# Altium footprint library Mega2560PCB库.PcbLib: 27 footprints (part 1 of 2)
Each footprint in its own frame and in the unit in brackets; x right, y up, seen from the top. Pads: shape width x height; smd on the part's side, far side on the other; paste and mask are expansions set on the pad; w line width, h text height; cw(c..) or ccw(c..) is an arc to the next point about the centre after c.
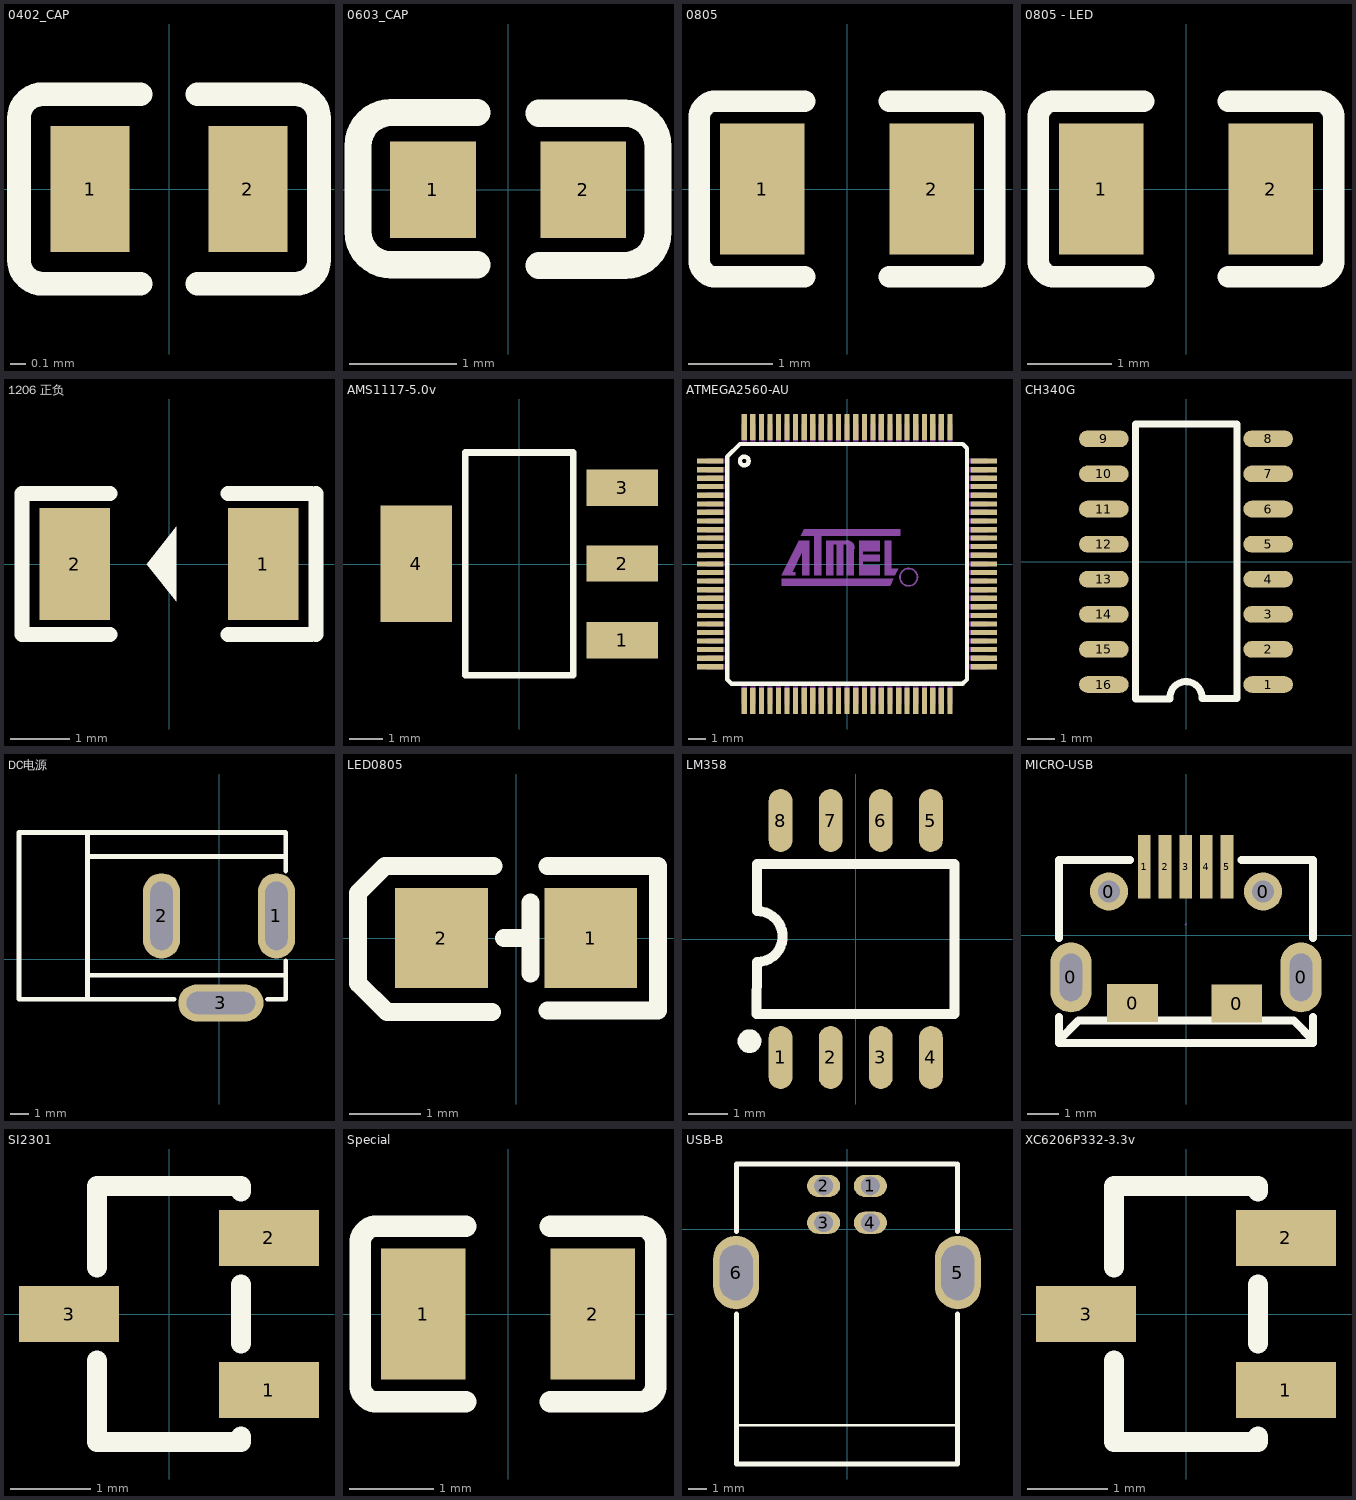
[diagram p0: the footprints below, top view; thin cyan lines are the x and y axes]

## 0402_CAP [mm]
pads (2):
  rect 0.5x0.8 smd: 1(-0.5,0) 2(0.5,0)
Top Overlay:
  lines w0.15: -0.18,-0.6 -0.8,-0.6 cw(c-0.8,-0.45) -0.95,-0.45 -0.95,-0.4 -0.95,0.4 -0.95,0.45 cw(c-0.8,0.45) -0.8,0.6 -0.18,0.6 ; 0.18,-0.6 0.8,-0.6 ccw(c0.8,-0.45) 0.95,-0.45 0.95,-0.4 0.95,0.4 0.95,0.45 ccw(c0.8,0.45) 0.8,0.6 0.18,0.6
3D body "RES0402(1).STEP": height 0.21, standoff 0.01, extent -0.5,-0.3 0.5,0.3

## 0603_CAP [mm]
pads (2):
  rect 0.8x0.9 smd: 1(-0.7,0) 2(0.7,0)
Top Overlay:
  lines w0.254: -0.289,-0.698 -1.089,-0.698 cw(c-1.089,-0.388) -1.399,-0.388 -1.398,0.412 cw(c-1.089,0.412) -1.089,0.722 -0.289,0.722 ; 0.287,-0.704 1.087,-0.704 ccw(c1.087,-0.394) 1.397,-0.394 1.397,0.406 ccw(c1.087,0.406) 1.087,0.716 0.287,0.716
3D body "RES0603.STEP": height 0.45, standoff 0, extent -0.8,-0.41 0.8,0.41

## 0805 [mm]
pads (2):
  rect 1x1.55 smd: 1(-1,0) 2(1,0)
Top Overlay:
  lines w0.254: -1.75,0.82 -1.75,0.8 ; -0.5,-1.04 -1.55,-1.04 cw(c-1.55,-0.84) -1.75,-0.84 -1.75,-0.8 -1.75,0.8 ; -0.5,1.04 -1.55,1.04 ccw(c-1.55,0.84) -1.75,0.84 -1.75,0.8 ; 0.5,-1.04 1.55,-1.04 ccw(c1.55,-0.84) 1.75,-0.84 1.75,-0.8 1.75,0.8 1.75,0.84 ccw(c1.55,0.84) 1.55,1.04 0.5,1.04
3D body "0805L.STEP": height 0.5, standoff 0, extent -1,-0.625 1,0.625

## 0805 - LED [mm]
pads (2):
  rect 1x1.55 smd: 1(-1,0) 2(1,0)
Top Overlay:
  lines w0.254: -1.75,0.82 -1.75,0.8 ; -0.5,-1.04 -1.55,-1.04 cw(c-1.55,-0.84) -1.75,-0.84 -1.75,-0.8 -1.75,0.8 ; -0.5,1.04 -1.55,1.04 ccw(c-1.55,0.84) -1.75,0.84 -1.75,0.8 ; 0.5,-1.04 1.55,-1.04 ccw(c1.55,-0.84) 1.75,-0.84 1.75,-0.8 1.75,0.8 1.75,0.84 ccw(c1.55,0.84) 1.55,1.04 0.5,1.04
3D body "0805L.STEP": height 0.5, standoff 0, extent -1,-0.625 1,0.625

## 1206 正负 [mm] "开关二极管"
pads (2):
  rect 1.2x1.9 smd: 1(1.6,0) 2(-1.6,0)
Top Overlay:
  region: 0.127,0 0.127,0.635 -0.381,0 0.127,-0.635
  lines w0.254: -1,-1.2 -2.5,-1.2 -2.5,1.2 -1,1.2 ; 1,-1.2 2.2,-1.2 2.413,-1.2 ; 1,1.2 2.2,1.2 2.413,1.2 ; 2.5,-1.2 2.5,1.2
3D body "1206L.STEP": height 0.55, standoff 0, extent -1.6,-0.8 1.6,0.8

## AMS1117-5.0v [mil]
pads (4):
  rect 85x43 smd: 1(122,-90.5) 2(122,0.5) 3(122,90.5)
  rect 85x138 smd: 4(-122,0.5)
Top Overlay:
  lines w7.9: -63.8,-131.7 -63.8,132.1 64.1,132.1 64.1,-131.7 -63.8,-131.7
3D body "SOT230P700X180-4N.step": height 70.87, standoff 0, extent -137.8,-131.89 137.8,131.89

## ATMEGA2560-AU [mil] "主控芯片"
height 47.24
pads (100):
  rect 60x12 smd: 1(-314.98,236.98) 2(-314.98,216.98) 3(-314.98,196.98) 4(-314.98,177.98) 5(-314.98,157.98) 6(-314.98,137.98) 7(-314.98,118.98) 8(-314.98,98.98) 9(-314.98,78.98) 10(-314.98,59.98) 11(-314.98,39.98) 12(-314.98,19.98) 13(-314.98,-0.02) 14(-314.98,-19.7) 15(-314.98,-39.39) 16(-314.98,-59.07) 17(-314.98,-78.76) 18(-314.98,-98.44) 19(-314.98,-118.13) 20(-314.98,-137.81) 21(-314.98,-157.5) 22(-314.98,-177.19) 23(-314.98,-196.87) 24(-314.98,-216.56) 25(-314.98,-236.24) 51(314.98,-236.24) 52(314.98,-216.56) 53(314.98,-196.87) 54(314.98,-177.19) 55(314.98,-157.5) 56(314.98,-137.81) 57(314.98,-118.13) 58(314.98,-98.44) 59(314.98,-78.76) 60(314.98,-59.07) 61(314.98,-39.39) 62(314.98,-19.7) 63(314.98,-0.02) 64(314.98,19.98) 65(314.98,39.98) 66(314.98,59.98) 67(314.98,78.98) 68(314.98,98.98) 69(314.98,118.98) 70(314.98,137.98) 71(314.98,157.98) 72(314.98,177.98) 73(314.98,196.98) 74(314.98,216.98) 75(314.98,236.98)
  rect 12x60 smd: 26(-236.24,-314.98) 27(-216.56,-314.98) 28(-196.87,-314.98) 29(-177.19,-314.98) 30(-157.5,-314.98) 31(-137.81,-314.98) 32(-118.13,-314.98) 33(-98.44,-314.98) 34(-78.76,-314.98) 35(-59.07,-314.98) 36(-39.39,-314.98) 37(-19.7,-314.98) 38(-0.02,-314.98) 39(19.98,-314.98) 40(39.98,-314.98) 41(59.98,-314.98) 42(78.98,-314.98) 43(98.98,-314.98) 44(118.98,-314.98) 45(137.98,-314.98) 46(157.98,-314.98) 47(177.98,-314.98) 48(196.98,-314.98) 49(216.98,-314.98) 50(236.98,-314.98) 76(236.98,314.98) 77(216.98,314.98) 78(196.98,314.98) 79(177.98,314.98) 80(157.98,314.98) 81(137.98,314.98) 82(118.98,314.98) 83(98.98,314.98) 84(78.98,314.98) 85(59.98,314.98) 86(39.98,314.98) 87(19.98,314.98) 88(-0.02,314.98) 89(-19.7,314.98) 90(-39.39,314.98) 91(-59.07,314.98) 92(-78.76,314.98) 93(-98.44,314.98) 94(-118.13,314.98) 95(-137.81,314.98) 96(-157.5,314.98) 97(-177.19,314.98) 98(-196.87,314.98) 99(-216.56,314.98) 100(-236.24,314.98)
Top Overlay:
  circle w10: c-236.24,236.98 r10
  lines w10: -275.61,-265.77 -275.61,246.98 -246.08,275.98 265.98,275.98 275.98,265.98 275.98,-265.77 265.98,-275.61 -265.77,-275.61 -275.61,-265.77
Mechanical 16:
  drawing of 108 lines, arcs and shapes, not listed
  text "R" at 133.98,-42.15 h37.2
  text "TQFP 100" at -110.65,-97.66 h49.6
3D body: height 47.24, standoff 0, extent -314.96,-314.96 314.96,314.96

## CH340G [mil]
pads (16):
  oval 70.79x23.62 smd: 1(117,-175) 2(117,-125) 3(117,-75) 4(117,-25) 5(117,25) 6(117,75) 7(117,125) 8(117,175) 9(-117,175) 10(-117,125) 11(-117,75) 12(-117,25) 13(-117,-25) 14(-117,-75) 15(-117,-125) 16(-117,-175)
Top Overlay:
  lines w10: -23,-195.9 -72,-195.9 -72,195.9 73,195.9 73,-194 ; -23.01,-194.89 cw(c0,-194) 23,-195 73,-195
3D body "SOP-16.STEP": height 59.06, standoff -3.94, extent -123.32,-196.85 123.32,196.85

## DC电源 [mm]
pads (3):
  oval 2x4.6 hole 1.2 slot 3.7 at 90 deg: 1(3.1,2.35) 2(-3.1,2.35)
  oval 4.6x2 hole 1.2 slot 3.7 at 0 deg: 3(0.1,-2.35)
Top Overlay:
  lines w0.254: -7.1,-2.15 -7.1,6.85 ; -7.019,-0.85 3.601,-0.85 ; -7.019,5.55 3.601,5.55 ; -2.415,-2.15 -10.8,-2.15 -10.8,6.85 3.601,6.85 3.601,4.775 ; 2.615,-2.15 3.601,-2.15 3.601,-0.074
3D body "SW3dPS-dc range - dc connector[4840.2201].STEP": height 11.2, standoff -3.3, extent -10.725,-2.653 3.102,6.853

## LED0805 [mil] "0805 LED"
pads (2):
  rect 51.2x55.1 smd: 1(41.35,0) 2(-41.35,0)
Top Overlay:
  lines w10: -13.55,-41.05 -71.55,-41.05 -87.55,-25.05 -87.55,24.95 -72.55,39.95 -12.55,39.95 ; -6.65,0 3.94,0 ; 7.87,-19.7 7.87,19.68 ; 17.45,-40.05 78.45,-40.05 78.45,39.95 17.45,39.95
3D body "LED0805.STEP": height 43.31, standoff 0, extent -39.76,-24.6 39.76,24.6

## LM358 [mm]
pads (8):
  oval 0.6x1.598 smd: 1(-1.905,-3) 2(-0.635,-3) 3(0.635,-3) 4(1.905,-3) 5(1.905,3) 6(0.635,3) 7(-0.635,3) 8(-1.905,3)
Top Overlay:
  lines w0.254: -2.515,-1.905 -2.5,-0.584 ccw(c-2.5,0.064) -2.5,0.711 ; -2.5,-1.9 2.5,-1.9 2.5,1.9 -2.5,1.9 -2.5,0.711
  lines w0.3: -2.692,-2.438 ccw(c-2.691,-2.588) -2.69,-2.438
3D body "SOP-8.STEP": height 1.8, standoff 0, extent -2.5,-3 2.5,3

## MICRO-USB [mm]
pads (11):
  oval 1.3x2.199 hole 0.7 slot 1.5 at 90 deg: 0(-3.619,-1.329) 0(3.619,-1.329)
  round 1.2 hole 0.7: 0(-2.425,1.371) 0(2.425,1.371)
  rect 1.6x1.2 smd: 0(-1.683,-2.14) 0(1.596,-2.156)
  rect 0.4x2 smd: 1(-1.31,2.156) 2(-0.66,2.156) 3(-0.01,2.156) 4(0.64,2.156) 5(1.29,2.156)
Top Overlay:
  lines w0.254: -4,-3.399 4,-3.399 4,-2.573 ; -4,-3.379 -4,-2.573 ; -4,-0.084 -4,2.361 -1.767,2.361 ; -3.97,-3.379 -3.97,-3.279 -3.38,-2.689 3.39,-2.689 3.98,-3.279 3.98,-3.399 ; 1.746,2.361 4,2.361 ; 4,-0.084 4,2.351
Mechanical 15:
  lines w0.003: -0.025,0.323 0.025,0.373
3D body "MICRO-USB.stp": height 2.37, standoff -1.05, extent -3.978,-4.318 3.978,1.464

## SI2301 [mm]
pads (3):
  rect 1.25x0.7 smd: 1(1.25,-0.95) 2(1.25,0.95) 3(-1.25,0)
Top Overlay:
  lines w0.254: -0.9,-0.581 -0.9,-1.6 0.9,-1.6 0.9,-1.531 ; -0.9,0.581 -0.9,1.6 0.9,1.6 0.9,1.531 ; 0.9,-0.369 0.9,0.369

## Special [mm]
pads (2):
  rect 1x1.55 smd: 1(-1,0) 2(1,0)
Top Overlay:
  lines w0.254: -1.75,0.82 -1.75,0.8 ; -0.5,-1.04 -1.55,-1.04 cw(c-1.55,-0.84) -1.75,-0.84 -1.75,-0.8 -1.75,0.8 ; -0.5,1.04 -1.55,1.04 ccw(c-1.55,0.84) -1.75,0.84 -1.75,0.8 ; 0.5,-1.04 1.55,-1.04 ccw(c1.55,-0.84) 1.75,-0.84 1.75,-0.8 1.75,0.8 1.75,0.84 ccw(c1.55,0.84) 1.55,1.04 0.5,1.04
3D body "0805L.STEP": height 0.5, standoff 0, extent -1,-0.625 1,0.625

## USB-B [mm]
pads (6):
  oval 1.8x1.2 hole 1: 1(1.27,2.355) 2(-1.27,2.355) 3(-1.27,0.355) 4(1.27,0.355)
  oval 2.5x4 hole 1.8 slot 3 at 90 deg: 5(6.025,-2.355) 6(-6.025,-2.355)
Top Overlay:
  lines w0.127: -6,-10.645 6,-10.645
  lines w0.254: -6,-4.586 -6,-12.755 6,-12.755 6,-4.586 ; -6,-0.124 -6,3.545 5.875,3.545 ; 6,-0.124 6,3.545

## XC6206P332-3.3v [mm]
pads (3):
  rect 1.25x0.7 smd: 1(1.25,-0.95) 2(1.25,0.95) 3(-1.25,0)
Top Overlay:
  lines w0.254: -0.9,-0.581 -0.9,-1.6 0.9,-1.6 0.9,-1.531 ; -0.9,0.581 -0.9,1.6 0.9,1.6 0.9,1.531 ; 0.9,-0.369 0.9,0.369